# Altium schematic symbol library LEDs.SchLib: 2 symbols
Pins are listed as number, name and electrical type; pins without a type are passive.

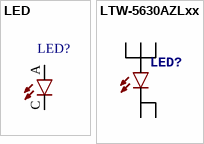
[diagram p0: symbols LED to LTW-5630AZLxx]

## LED
designator LED?  (value not drawn)
=Description
pins: A, C

## LTW-5630AZLxx
designator LED?
=description
pins: A, A, A, C, C